# EAGLE library part LEA-5S (library X893)
u-blox LEA-5S GPS Module
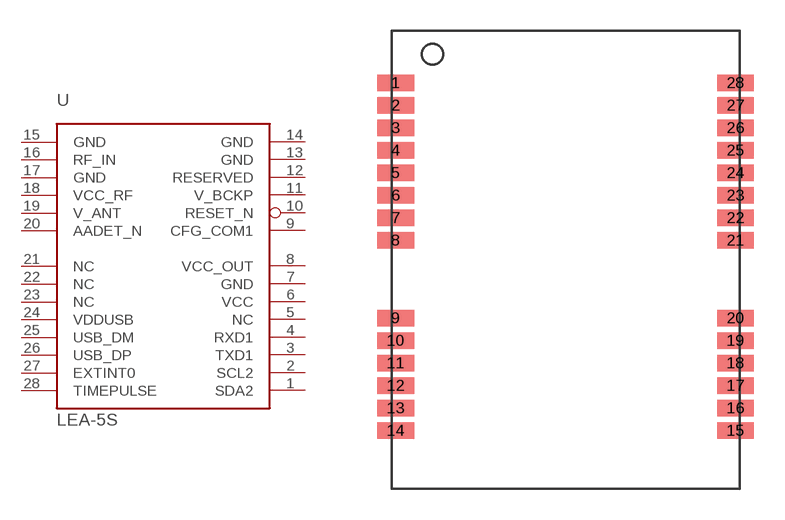
[diagram p6: symbol with the pads of LES-5; footprint LES-5]

Designator prefix -

## LEA-5S  [LES-5]
1  SDA2
2  SCL2
3  TXD1  out
4  RXD1  in
5  NC
6  VCC
7  GND
8  VCC_OUT  out
9  CFG_COM1  nc
10  RESET_N  in
11  V_BCKP
12  RESERVED  nc
13  GND  pwr
14  GND  pwr
15  GND  pwr
16  RF_IN  pas
17  GND  pwr
18  VCC_RF  pas
19  V_ANT  pas
20  AADET_N  pas
21  NC  nc
22  NC  nc
23  NC  nc
24  VDDUSB
25  USB_DM
26  USB_DP
27  EXTINT0  nc
28  TIMEPULSE  out

## Footprint LES-5 (pad centres in mm)
smd 1.8 x 0.8: 1 -8.3,9.6; 2 -8.3,8.5; 3 -8.3,7.4; 4 -8.3,6.3; 5 -8.3,5.2; 6 -8.3,4.1; 7 -8.3,3; 8 -8.3,1.9; 9 -8.3,-1.9; 10 -8.3,-3; 11 -8.3,-4.1; 12 -8.3,-5.2; 13 -8.3,-6.3; 14 -8.3,-7.4; 15 8.3,-7.4; 16 8.3,-6.3; 17 8.3,-5.2; 18 8.3,-4.1; 19 8.3,-3; 20 8.3,-1.9; 21 8.3,1.9; 22 8.3,3; 23 8.3,4.1; 24 8.3,5.2; 25 8.3,6.3; 26 8.3,7.4; 27 8.3,8.5; 28 8.3,9.6